# Altium footprint library PWR561C.PcbLib: 34 footprints (part 1 of 3)
Each footprint in its own frame and in the unit in brackets; x right, y up, seen from the top. Pads: shape width x height; smd on the part's side, far side on the other; paste and mask are expansions set on the pad; w line width, h text height; cw(c..) or ccw(c..) is an arc to the next point about the centre after c.
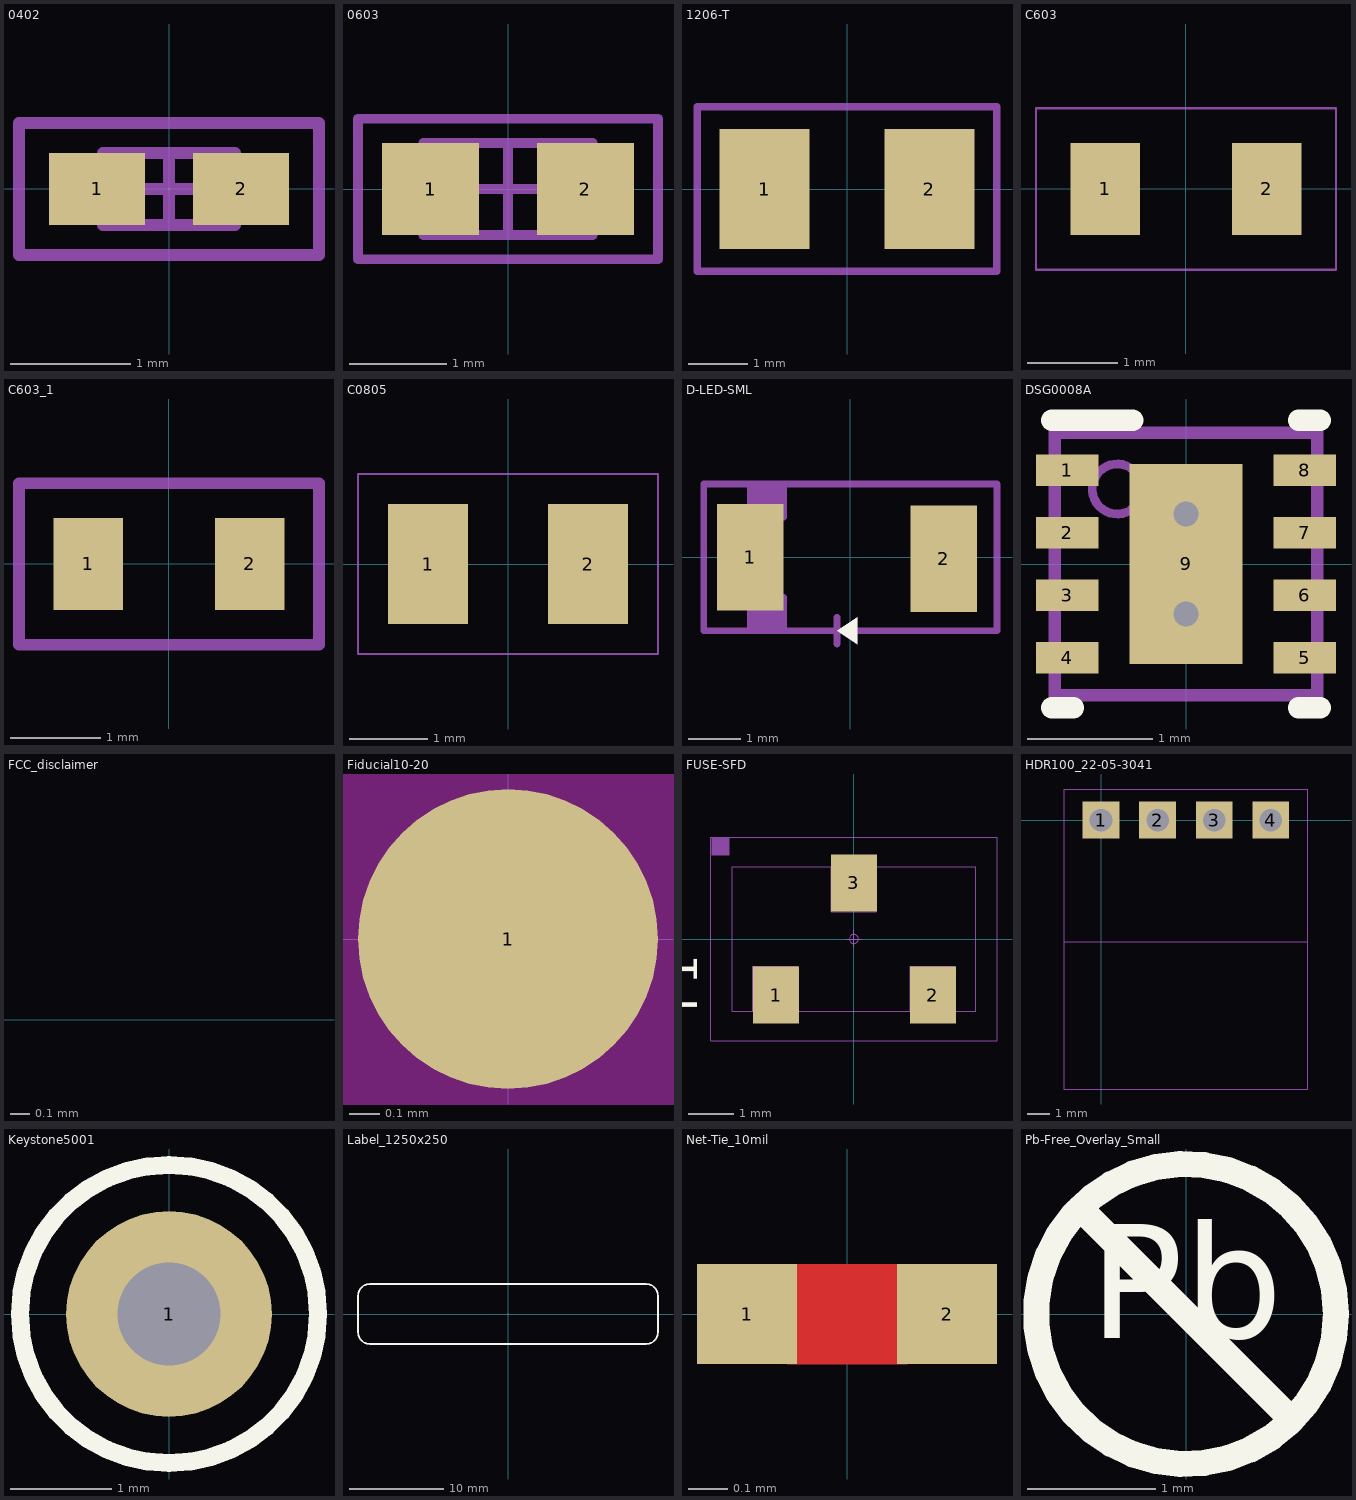
[diagram p0: the footprints below, top view; thin cyan lines are the x and y axes]

## 0402 [mm] "0402 from SM-752 data"
height 0.6
pads (2):
  rect 0.8x0.6 smd: 1(-0.6,0) 2(0.6,0)
Mechanical 5:
  lines w0.1: -1.25,-0.55 1.25,-0.55 1.25,0.55 -1.25,0.55 -1.25,-0.55
Mechanical 13:
  lines w0.1: -0.35,-0.3 -0.35,0.3 ; 0.35,-0.3 0.35,0.3 ; -0.55,-0.3 -0.55,0.3 0.55,0.3 0.55,-0.3 -0.55,-0.3
Mechanical 15:
  lines w0.1: -0.3,0 0.3,0 ; 0,-0.3 0,0.3 ; -1.25,-0.55 -1.25,0.55 1.25,0.55 1.25,-0.55 -1.25,-0.55
3D body: height 0.6, standoff 0, extent -0.549,-0.299 -0.351,0.299
3D body: height 0.6, standoff 0, extent -0.349,-0.299 0.349,0.299
3D body: height 0.6, standoff 0, extent 0.351,-0.299 0.549,0.299

## 0603 [mm] "0603 from SM-752 data"
height 0.85
pads (2):
  rect 1x0.95 smd: 1(-0.8,0) 2(0.8,0)
Mechanical 5:
  lines w0.1: -1.55,-0.725 1.55,-0.725 1.55,0.725 -1.55,0.725 -1.55,-0.725
Mechanical 13:
  lines w0.1: -0.55,-0.475 -0.55,0.475 ; 0.55,-0.475 0.55,0.475 ; -0.875,-0.475 -0.875,0.475 0.875,0.475 0.875,-0.475 -0.875,-0.475
Mechanical 15:
  lines w0.1: -0.475,0 0.475,0 ; 0,-0.475 0,0.475 ; -1.55,-0.725 -1.55,0.725 1.55,0.725 1.55,-0.725 -1.55,-0.725
3D body: height 0.85, standoff 0, extent 0.551,-0.474 0.874,0.474
3D body: height 0.85, standoff 0, extent -0.549,-0.474 0.549,0.474
3D body: height 0.85, standoff 0, extent -0.874,-0.474 -0.551,0.474

## 1206-T [mil]
pads (2):
  rect 60x80 smd mask+2: 1(-55,0) 2(55,0)
Mechanical 6:
  lines w5: -100,-54.9 -100,55 100,55 100,-54.9 -100,-54.9

## C603 [mil]
pads (2):
  rect 30x40 smd mask+2: 1(-35,0) 2(35,0)
Mechanical 5:
  lines w1: -65,-35 -65,35 65,35 65,-35 -65,-35

## C603_1 [mil]
pads (2):
  rect 30x40 smd mask+2: 1(-35,0) 2(35,0)
Mechanical 5:
  lines w5: -65,-35 65,-35 65,35 -65,35 -65,-35

## C0805 [mil]
pads (2):
  rect 40x60 smd mask+2: 1(-40,0) 2(40,0)
Mechanical 5:
  lines w1: -75,-45 -75,45 75,45 75,-45 -75,-45

## D-LED-SML [mil]
pads (2):
  rect 50x80 smd: 1(-75,0) 2(70,-1)
Top Overlay:
  region: -10,-55 5,-65 5,-45
Mechanical 5:
  region: -10,-55 5,-65 5,-45
  lines w5: -110,-55 110,-55 ; -110,-54.9 -110,55 110,55 110,-54.9 ; -75,-50 -55,-30 ; -75,-45 -60,-30 ; -75,-40 -65,-30 ; -75,-35 -70,-30 ; -75,35 -55,55 ; -75,40 -60,55 ; -75,45 -65,55 ; -75,50 -70,55 ; -75,55 -75,30 ; -70,-55 -50,-35 ; -70,30 -50,50 ; -65,-55 -50,-40 ; -65,30 -50,45 ; -60,-55 -50,-45 ; -60,30 -50,40 ; -55,-55 -50,-50 ; -55,30 -50,35 ; -75,-55 -75,-30 -50,-30 ; -75,-55 -50,-30 ; -75,-55 -50,-55 ; -75,30 -50,55 -50,30 -75,30 ; -50,-55 -50,-30 ; -50,-55 -50,-30 ; -10,-65 -10,-45 -10,-65

## DSG0008A [mm] "SON, 8-Leads, Body 2x2mm, Pitch 0.5mm, Thermal Pad 1.6x0.9mm, TI Recommended"
height 0.8
pads (9):
  rect 0.5x0.25 smd: 1(-0.95,0.75) 2(-0.95,0.25) 3(-0.95,-0.25) 4(-0.95,-0.75) 5(0.95,-0.75) 6(0.95,-0.25) 7(0.95,0.25) 8(0.95,0.75)
  rect 0.9x1.6 smd paste-0.45: 9(0,0)
via 0,-0.4 diameter 0.5 hole 0.2
via 0,0.4 diameter 0.5 hole 0.2
Top Overlay:
  lines w0.17: -1.075,-1.15 -0.9,-1.15 ; -1.075,1.15 -0.425,1.15 ; 0.9,-1.15 1.075,-1.15 ; 0.9,1.15 1.075,1.15
Top Paste:
  rectangle: -0.427,-0.733 0.427,0.733
Mechanical 5:
  circle w0.07: c-0.55,0.6 r0.2
  lines w0.1: -1.05,-1.05 1.05,-1.05 1.05,1.05 -1.05,1.05 -1.05,-1.05
3D body: height 0.8, standoff 0.5, extent -0.749,0.401 -0.351,0.799
3D body: height 0.8, standoff 0, extent -1.05,-1.05 1.05,1.05

## FCC_disclaimer [mil]
Top Overlay:
  text "For evaluation only; not FCC approved for resale." at -627.08,-13.9 h60

## Fiducial10-20 [mm]
pads (1):
  round 1 smd mask+0.5: 1(0,0)
Top Layer keep-out:
  circle w1.178: c0,0 r0.5

## FUSE-SFD [mil]
pads (3):
  rect 40x50 smd: 1(-68,-49) 2(69,-49) 3(0,49)
Top Overlay:
  text "F1" at -137,-63.57 h30
Mechanical 1:
  region: -124,73 -109,73 -109,88 -124,88
Mechanical 5:
  lines w1: -125,-89 -125,89 125,89 125,-89 -125,-89
Mechanical 16:
  circle w1: c0,0 r3.94
  lines w1: -73.66,-43.31 -63.82,-43.31 ; -68.74,-48.23 -68.74,-38.39 ; -6.89,0 6.89,0 ; -4.92,43.31 4.92,43.31 ; 0,-6.89 0,7.87 ; 0,38.39 0,48.23 ; 63.82,-43.31 73.66,-43.31 ; 68.74,-48.23 68.74,-38.39 ; -106.3,-62.99 106.3,-62.99 106.3,62.99 -106.3,62.99 -106.3,-62.99 ; -88.43,-62.99 -49.06,-62.99 -49.06,-23.62 -88.43,-23.62 -88.43,-62.99 ; -19.68,23.62 19.68,23.62 19.68,62.99 -19.68,62.99 -19.68,23.62 ; 49.06,-62.99 88.43,-62.99 88.43,-23.62 49.06,-23.62 49.06,-62.99

## HDR100_22-05-3041 [mil]
pads (4):
  rect 65x65 hole 40: 1(0,0) 2(100,0) 3(200,0) 4(300,0)
Mechanical 5:
  lines w1.1: -64.9,-215 365.1,-215 ; -64.9,-475 365.1,-475 365.1,55 -64.9,55 -64.9,-475

## Keystone5001 [mil] "For Keystone 500x miniature loop terminals"
height 181.1
pads (1):
  round 80 hole 40: 1(0,0)
Top Overlay:
  circle w7: c0,0 r58
Mechanical 5:
  circle w5: c0,0 r58.31
3D body "Keystone_5001.stp": height 181.97, standoff -118.11, extent -49,-49 49.04,49.24

## Label_1250x250 [mil] "Thermal Transfer Labels"
height 1
pads (1):
  round 1 on Mech13: 0(0,0)
Top Overlay:
  lines w7: -625,-75 ccw(c-575,-75) -575,-125 575,-125 ccw(c575,-75) 625,-75 625,75 ccw(c575,75) 575,125 -575,125 ccw(c-575,75) -625,75 -625,-75
Mechanical 5:
  lines w5: -625,-75 ccw(c-575,-75) -575,-125 575,-125 ccw(c575,-75) 625,-75 625,75 ccw(c575,75) 575,125 -575,125 ccw(c-575,75) -625,75 -625,-75
3D body: height 1, standoff 0, extent -625.02,-125.02 625.02,125.02

## Net-Tie_10mil [mil] "10mil net tie, no solder mask opening, no solder paste"
pads (2):
  rect 10x10 smd paste-5 mask-5: 1(-10,0) 2(10,0)
Top Layer:
  region: -6,5 6,5 6,-5 -6,-5

## Pb-Free_Overlay_Small [mil]
Top Overlay:
  circle w8: c0,0 r46
  lines w8: -32.53,32.53 32.53,-32.53
  text "Pb" at -29.6,-18.9 h60